# Altium footprint library [1] Main.PcbLib: 19 footprints (part 1 of 2)
Each footprint in its own frame and in the unit in brackets; x right, y up, seen from the top. Pads: shape width x height; smd on the part's side, far side on the other; paste and mask are expansions set on the pad; w line width, h text height; cw(c..) or ccw(c..) is an arc to the next point about the centre after c.
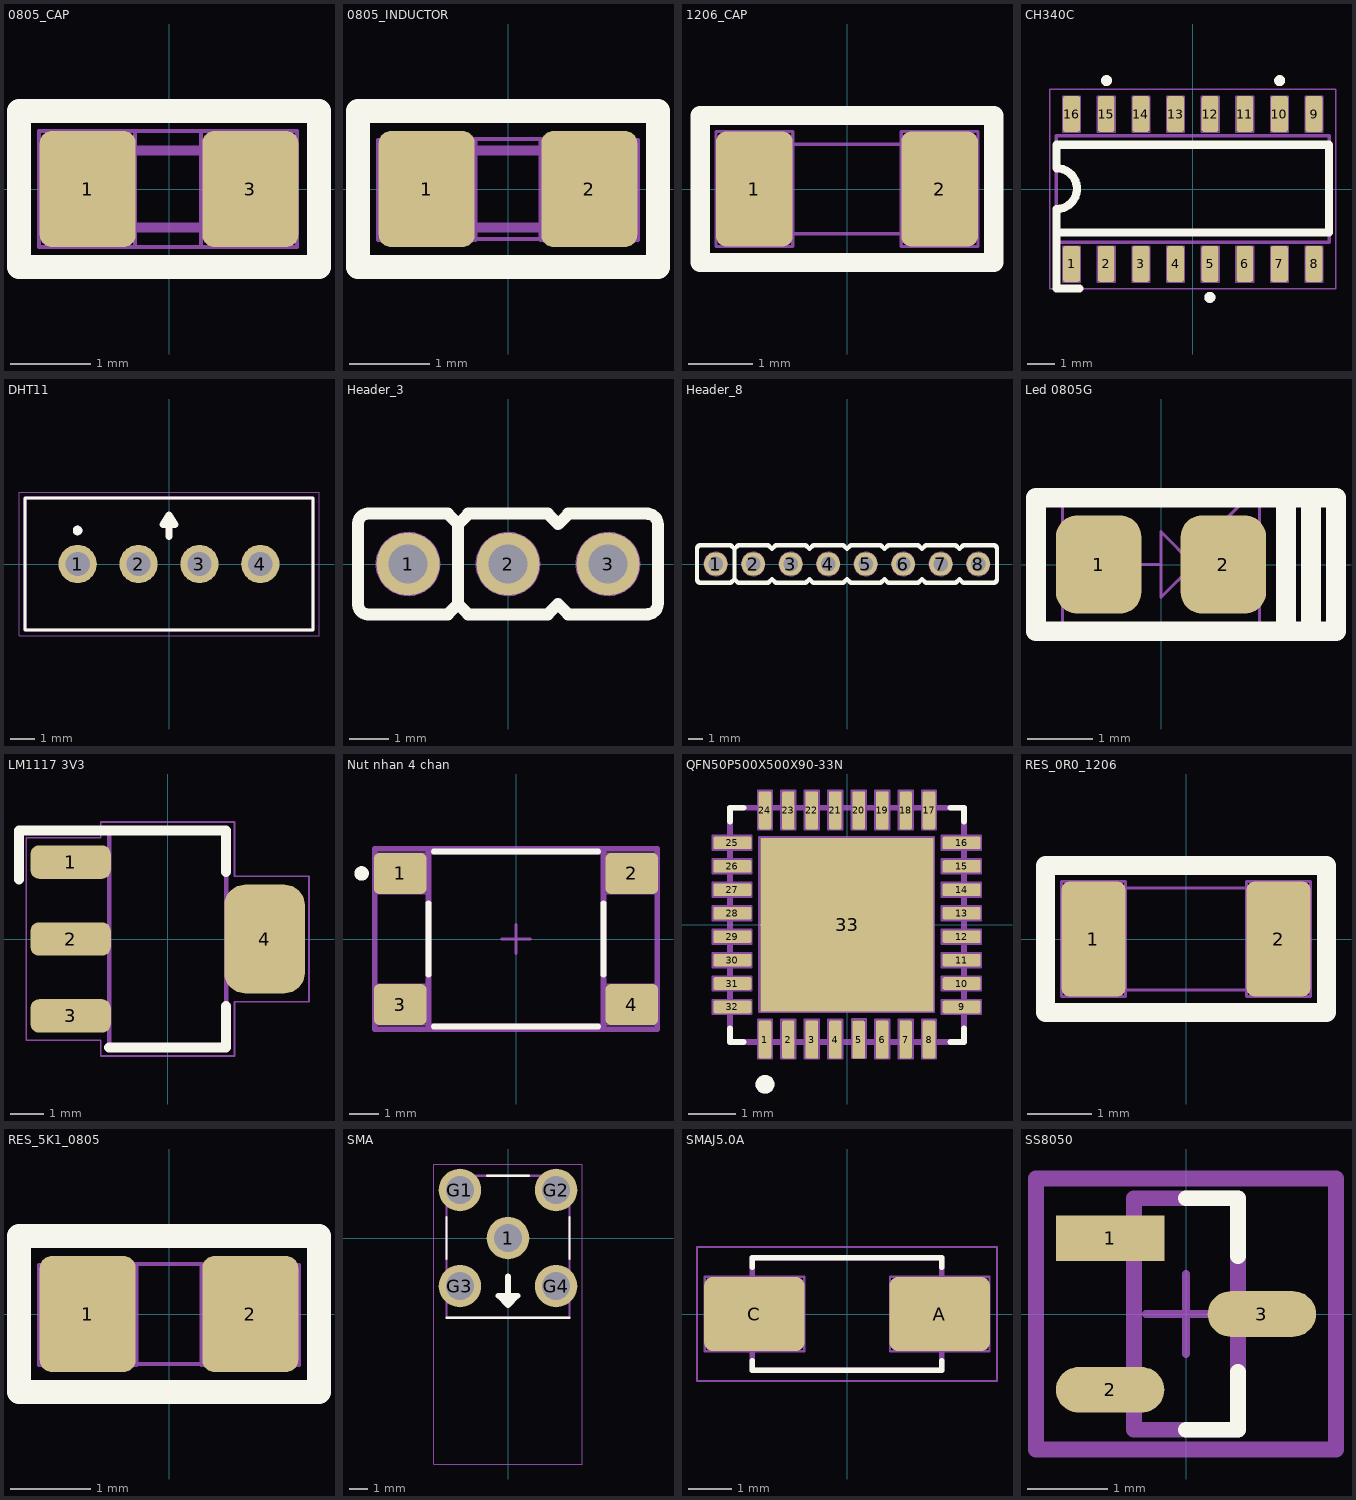
[diagram p0: the footprints below, top view; thin cyan lines are the x and y axes]

## 0805_CAP [mm]
pads (2):
  rrect25% 1.2x1.45 smd: 1(-1.016,0) 3(1.016,0)
Top Overlay:
  lines w0.3: -1.875,-0.975 -1.875,0.975 1.875,0.975 1.875,-0.975 -1.875,-0.975
Mechanical 2:
  lines w0.05: -1,-0.725 -1,0.725 ; -0.425,-0.725 -0.425,0.725 ; 0.4,-0.725 0.4,0.725 ; 1.025,-0.725 1.025,0.725 ; -1.625,-0.725 1.6,-0.725 1.6,0.725 -1.625,0.725 -1.625,-0.725
Mechanical 13:
  lines w0.127: -0.88,-0.48 0.88,-0.48 0.88,0.48 -0.88,0.48 -0.88,-0.48
3D body "CL21B224KAFNNNE.STEP": height 1.22, standoff -0.03, extent -1,-0.675 1,0.675

## 0805_INDUCTOR [mm]
pads (2):
  rrect25% 1.2x1.45 smd: 1(-1.016,0) 2(1.016,0)
Top Overlay:
  lines w0.3: -1.875,-0.975 1.875,-0.975 1.875,0.975 -1.875,0.975 -1.875,-0.975
Mechanical 2:
  lines w0.05: -1.6,0.61 -1.626,0.61 ; 0.85,-0.625 0.9,-0.625 ; -1.626,0.61 -0.406,0.61 -0.406,-0.635 -1.626,-0.635 -1.626,0.61 ; -1,-0.625 1,-0.625 1,0.625 -1,0.625 -1,-0.625 ; 0.406,-0.635 1.626,-0.635 1.626,0.61 0.406,0.61 0.406,-0.635
Mechanical 13:
  lines w0.127: -0.88,-0.48 -0.88,0.48 0.88,0.48 0.88,-0.48 -0.88,-0.48
3D body "step_temp.STEP": height 1, standoff 0, extent -1,-0.625 1,0.625

## 1206_CAP [mm]
pads (2):
  rrect25% 1.2x1.8 smd mask+0.1: 1(-1.45,0) 2(1.45,0)
Top Overlay:
  lines w0.3: -2.3,-1.15 -2.3,1.15 2.3,1.15 2.3,-1.15 -2.3,-1.15
Mechanical 2:
  lines w0.05: -2.05,-0.9 -0.85,-0.9 -0.85,0.9 -2.05,0.9 -2.05,-0.9 ; -1.65,-0.7 -1.65,0.7 1.65,0.7 1.65,-0.7 -1.65,-0.7 ; 0.85,-0.9 2.05,-0.9 2.05,0.9 0.85,0.9 0.85,-0.9
3D body "C1206X104J3REC7210.STEP": height 1.57, standoff -0.03, extent -1.65,-0.7 1.65,0.7

## CH340C [mm]
pads (16):
  rrect25% 0.62x1.31 smd: 1(-4.445,-2.75) 2(-3.175,-2.75) 3(-1.905,-2.75) 4(-0.635,-2.75) 5(0.635,-2.75) 6(1.905,-2.75) 7(3.175,-2.75) 8(4.445,-2.75) 9(4.445,2.75) 10(3.175,2.75) 11(1.905,2.75) 12(0.635,2.75) 13(-0.635,2.75) 14(-1.905,2.75) 15(-3.175,2.75) 16(-4.445,2.75)
Top Overlay:
  circle w0.2: c-3.165,3.975 r0.1
  circle w0.2: c3.185,3.975 r0.1
  circle w0.2: c0.625,-3.975 r0.1
  lines w0.3: -5,-0.794 -5,-1.6 ; -5,-0.738 ccw(c-5,0.013) -5,0.763 ; -5,0.819 -5,1.625 4.996,1.625 4.996,-1.6 -5,-1.6 ; -4.15,-3.65 -5,-3.65 -5,-1.6
Mechanical 2:
  lines w0.05: -3.475,-2.1 -3.5,-2.1 ; -3.5,-2.1 -2.85,-2.1 -2.85,-3.425 -3.5,-3.425 -3.5,-2.1 ; -4.77,-3.425 -4.12,-3.425 -4.12,-2.1 -4.77,-2.1 -4.77,-3.425 ; -4.77,2.075 -4.12,2.075 -4.12,3.4 -4.77,3.4 -4.77,2.075 ; -3.5,2.075 -2.85,2.075 -2.85,3.4 -3.5,3.4 -3.5,2.075 ; -2.23,-3.425 -1.58,-3.425 -1.58,-2.1 -2.23,-2.1 -2.23,-3.425 ; -2.23,2.075 -1.58,2.075 -1.58,3.4 -2.23,3.4 -2.23,2.075 ; -0.96,-3.425 -0.31,-3.425 -0.31,-2.1 -0.96,-2.1 -0.96,-3.425 ; -0.96,2.075 -0.31,2.075 -0.31,3.4 -0.96,3.4 -0.96,2.075 ; 0.31,-3.425 0.96,-3.425 0.96,-2.1 0.31,-2.1 0.31,-3.425 ; 0.31,2.075 0.96,2.075 0.96,3.4 0.31,3.4 0.31,2.075 ; 1.58,-3.425 2.23,-3.425 2.23,-2.1 1.58,-2.1 1.58,-3.425 ; 1.58,2.075 2.23,2.075 2.23,3.4 1.58,3.4 1.58,2.075 ; 2.85,-3.425 3.5,-3.425 3.5,-2.1 2.85,-2.1 2.85,-3.425 ; 2.85,2.075 3.5,2.075 3.5,3.4 2.85,3.4 2.85,2.075 ; 4.12,-3.425 4.77,-3.425 4.77,-2.1 4.12,-2.1 4.12,-3.425 ; 4.12,2.075 4.77,2.075 4.77,3.4 4.12,3.4 4.12,2.075
  lines w0.127: -5,-1.95 -5,1.95 5,1.95 5,-1.95 -5,-1.95
Mechanical 13:
  circle w0.2: c0.625,-3.975 r0.1
Mechanical 15:
  lines w0.05: -5.25,-3.655 5.25,-3.655 5.25,3.655 -5.25,3.655 -5.25,-3.655
3D body "step_temp.STEP": height 1.8, standoff 0, extent -5,-3 5,3

## DHT11 [mm]
pads (4):
  round 1.6 hole 1.016: 1(-3.81,0) 2(-1.27,0) 3(1.27,0) 4(3.81,0)
Top Overlay:
  circle w0.2: c-3.81,1.397 r0.1
  lines w0.127: -6,-2.75 -6,2.75 6,2.75 6,-2.75 -6,-2.75
  lines w0.3: 0,1.143 0,2.032 ; 0,2.032 0.254,1.651 -0.254,1.651 0,2.032
Mechanical 13:
  circle w0.2: c-3.81,1.397 r0.1
  lines w0.127: -6,-2.75 6,-2.75 6,2.75 -6,2.75 -6,-2.75
Mechanical 15:
  lines w0.05: -6.25,-3 6.25,-3 6.25,3 -6.25,3 -6.25,-3
3D body "ADA386--3DModel-STEP-56544.STEP": height 16, standoff -7.5, extent -6,-2.75 6,2.75

## Header_3 [mm] "Connector DIP, 3Pin_2.54mm"
height 5
pads (3):
  round 1.6 hole 1 mask+0.1: 1(-2.54,0) 2(0,0) 3(2.54,0)
Top Overlay:
  lines w0.3: -1.524,-1.28 -1.524,-1.27 ; -1.524,1.27 -1.27,1.016 ; -1.524,1.28 -3.57,1.28 ccw(c-3.55,1.02) -3.81,1 -3.81,-1 ccw(c-3.55,-1.02) -3.57,-1.28 -1.534,-1.28 -1.524,-1.27 ; -1.016,1.27 -1.27,1.016 ; -1.016,1.28 1.016,1.28 ; 1.016,-1.28 -1.016,-1.28 -1.27,-1.026 -1.27,-1.016 ; 1.016,-1.27 1.27,-1.016 1.27,-1.026 1.524,-1.28 3.556,-1.28 3.556,-1.27 ; 1.016,1.27 1.27,1.016 1.524,1.27 ; 1.524,1.28 3.556,1.28 3.556,1.27 ; 3.53,-1.28 ccw(c3.53,-1) 3.81,-1 3.81,1 ccw(c3.53,1) 3.53,1.28 ; -1.524,-1.27 -1.27,-1.016 ; -1.27,-1.016 -1.27,1.016
Mechanical 2:
  circle w0.05: c0,0 r0.8
  circle w0.05: c2.54,0 r0.8
  circle w0.05: c-2.54,0 r0.8
  lines w0.05: -1.524,-1.28 -1.524,-1.27 ; -1.524,1.27 -1.27,1.016 ; -1.524,1.28 -3.57,1.28 ccw(c-3.55,1.02) -3.81,1 -3.81,-1 ccw(c-3.55,-1.02) -3.57,-1.28 -1.534,-1.28 -1.524,-1.27 ; -1.016,1.27 -1.27,1.016 ; -1.016,1.28 1.016,1.28 ; 1.016,-1.28 -1.016,-1.28 -1.27,-1.026 ; 1.016,-1.27 1.27,-1.016 1.27,-1.026 1.524,-1.28 3.556,-1.28 3.556,-1.27 ; 1.016,1.27 1.27,1.016 1.524,1.27 ; 1.524,1.28 3.556,1.28 3.556,1.27 ; 3.53,-1.28 ccw(c3.53,-1) 3.81,-1 3.81,1 ccw(c3.53,1) 3.53,1.28 ; -1.524,-1.27 -1.27,-1.016 -1.27,-1.026 ; -1.27,-1.026 -1.27,1.016
  text "3" at 2.286,-0.254 h1.2
  text "1" at -2.794,-0.254 h1.2
3D body "Header 1x3.STEP": height 10.1, standoff -1.5, extent -3.81,-1.27 3.81,1.27

## Header_8 [mm] "Connector DIP Male, 8Pin_2.54mm"
height 5
pads (8):
  round 1.6 hole 1 mask+0.1: 1(-8.89,0) 2(-6.35,0) 3(-3.81,0) 4(-1.27,0) 5(1.27,0) 6(3.81,0) 7(6.35,0) 8(8.89,0)
Top Overlay:
  lines w0.3: -7.874,-1.28 -7.874,-1.27 ; -7.874,1.27 -7.62,1.016 ; -7.874,1.28 -9.92,1.28 ccw(c-9.9,1.02) -10.16,1 -10.16,-1 ccw(c-9.9,-1.02) -9.92,-1.28 -7.884,-1.28 -7.874,-1.27 ; -7.366,1.27 -7.62,1.016 ; -7.366,1.28 -5.334,1.28 -5.334,1.27 -5.08,1.016 -4.826,1.27 ; -4.84,-1.28 -2.804,-1.28 -2.794,-1.27 ; -4.84,1.28 -2.794,1.28 ; -4.826,-1.27 -5.08,-1.016 -5.334,-1.27 -5.334,-1.28 -7.366,-1.28 -7.62,-1.026 ; -2.794,-1.28 -2.794,-1.27 ; -2.794,1.27 -2.54,1.016 -2.286,1.27 ; -2.286,1.28 -0.254,1.28 -0.254,1.27 0,1.016 0.254,1.27 ; 0.24,-1.28 2.276,-1.28 2.286,-1.27 ; 0.24,1.28 2.286,1.28 ; 0.254,-1.27 0,-1.016 -0.254,-1.27 -0.254,-1.28 -2.286,-1.28 -2.54,-1.026 -2.54,-1.016 -2.794,-1.27 ; 2.286,-1.28 2.286,-1.27 ; 2.286,1.27 2.54,1.016 2.794,1.27 ; 2.794,1.28 4.826,1.28 4.826,1.27 5.08,1.016 5.334,1.27 ; 5.32,-1.28 7.356,-1.28 7.366,-1.27 ; 5.32,1.28 7.366,1.28 ; 5.334,-1.27 5.08,-1.016 4.826,-1.27 4.826,-1.28 2.794,-1.28 2.54,-1.026 2.54,-1.016 2.286,-1.27 ; 7.366,-1.28 7.366,-1.27 ; 7.366,1.27 7.62,1.016 7.874,1.27 ; 7.874,1.28 9.906,1.28 ; 9.906,-1.28 7.874,-1.28 7.62,-1.026 7.62,-1.016 7.366,-1.27 ; 9.92,-1.28 ccw(c9.9,-1.02) 10.16,-1 10.16,1 ccw(c9.9,1.02) 9.92,1.28 ; -7.874,-1.27 -7.62,-1.016 -7.62,-1.026 ; -7.62,-1.026 -7.62,1.016
Mechanical 2:
  circle w0.05: c-3.81,0 r0.8
  circle w0.05: c-6.35,0 r0.8
  circle w0.05: c3.81,0 r0.8
  circle w0.05: c1.27,0 r0.8
  circle w0.05: c8.89,0 r0.8
  circle w0.05: c-1.27,0 r0.8
  circle w0.05: c-8.89,0 r0.8
  circle w0.05: c-8.89,0 r0.8
  circle w0.05: c6.35,0 r0.8
  lines w0.05: -7.874,-1.28 -7.874,-1.27 ; -7.874,1.27 -7.62,1.016 ; -7.874,1.28 -9.92,1.28 ccw(c-9.9,1.02) -10.16,1 -10.16,-1 ccw(c-9.9,-1.02) -9.92,-1.28 -7.884,-1.28 -7.874,-1.27 ; -7.366,1.27 -7.62,1.016 ; -7.366,1.28 -5.334,1.28 -5.334,1.27 -5.08,1.016 -4.826,1.27 ; -4.84,-1.28 -2.804,-1.28 -2.794,-1.27 ; -4.84,1.28 -2.794,1.28 ; -4.826,-1.27 -5.08,-1.016 -5.334,-1.27 -5.334,-1.28 -7.366,-1.28 -7.62,-1.026 -7.62,-1.016 ; -2.794,-1.28 -2.794,-1.27 ; -2.794,1.27 -2.54,1.016 -2.286,1.27 ; -2.286,1.28 -0.254,1.28 -0.254,1.27 0,1.016 0.254,1.27 ; 0.24,-1.28 2.276,-1.28 2.286,-1.27 ; 0.24,1.28 2.286,1.28 ; 0.254,-1.27 0,-1.016 -0.254,-1.27 -0.254,-1.28 -2.286,-1.28 -2.54,-1.026 -2.54,-1.016 -2.794,-1.27 ; 2.286,-1.28 2.286,-1.27 ; 2.286,1.27 2.54,1.016 2.794,1.27 ; 2.794,1.28 4.826,1.28 4.826,1.27 5.08,1.016 5.334,1.27 ; 5.32,-1.28 7.356,-1.28 7.366,-1.27 ; 5.32,1.28 7.366,1.28 ; 5.334,-1.27 5.08,-1.016 4.826,-1.27 4.826,-1.28 2.794,-1.28 2.54,-1.026 2.54,-1.016 2.286,-1.27 ; 7.366,-1.28 7.366,-1.27 ; 7.366,1.27 7.62,1.016 7.874,1.27 ; 7.874,1.28 9.906,1.28 ; 9.906,-1.28 7.874,-1.28 7.62,-1.026 7.62,-1.016 7.366,-1.27 ; 9.92,-1.28 ccw(c9.9,-1.02) 10.16,-1 10.16,1 ccw(c9.9,1.02) 9.92,1.28 ; -7.874,-1.27 -7.62,-1.016 ; -7.62,-1.016 -7.62,1.016
  text "1" at -9.1,-0.4 h1.2
  text "8" at 8.6,-0.4 h1.2
3D body "Header 1x8.STEP": height 10.1, standoff -1.5, extent -10.16,-1.27 10.16,1.27

## Led 0805G [mm] "Chip LED; Green; Body 2.0 x 1.3 mm (LxW typ)"
height 1.1
pads (2):
  rrect50% 1.3x1.5 smd: 1(-0.95,0) 2(0.95,0)
Top Overlay:
  lines w0.3: 1.905,-1.016 1.905,1.016 ; 2.286,-1.016 2.286,1.016 ; -1.905,-1.016 -1.905,1.016 2.667,1.016 2.667,-1.016 -1.905,-1.016
Mechanical 2:
  lines w0.05: -1.5,-1 -1.5,1.032 ; -0.5,0 0,0 ; 0.5,-0.5 0.5,0.5 ; 0.6,0.5 0.8,0.7 0.8,0.5 1.2,0.9 ; 0.75,0.2 0.95,0.4 0.95,0.2 1.35,0.6 ; 1,0 0.5,0 ; 1.5,-1 1.5,1.032 ; 0.5,0 0,-0.5 0,0.5 0.5,0 ; -1.905,-1 -1.905,1.032 1.905,1.032 1.905,-1 -1.905,-1
3D body "User Library-User Library-led_0805 GRE.step": height 1.1, standoff 0, extent -1.035,-0.625 0.985,0.625

## LM1117 3V3 [mm]
pads (4):
  rrect50% 2.4x1 smd: 1(-2.9,2.3) 2(-2.9,0) 3(-2.9,-2.3)
  rrect50% 2.4x3.25 smd: 4(2.9,0)
Top Overlay:
  lines w0.3: -4.445,1.778 -4.445,3.25 1.75,3.25 1.75,2.01 ; -1.75,-3.25 1.75,-3.25 1.75,-2.01
Mechanical 13:
  lines w0.127: -1.75,-3.25 1.75,-3.25 1.75,3.25 -1.75,3.25 -1.75,-3.25
Mechanical 15:
  lines w0.05: -4.225,-3.025 -2,-3.025 -2,-3.5 2,-3.5 2,-1.875 4.225,-1.875 4.225,1.875 2,1.875 2,3.5 -2,3.5 -2,3.025 -4.225,3.025 -4.225,-3.025
3D body "step_temp.STEP": height 1.8, standoff 0, extent -3.499,-3.25 3.499,3.25

## Nut nhan 4 chan [mm]
pads (4):
  rrect25% 1.8x1.4 smd paste+0 mask+0: 1(-3.975,2.25) 2(3.975,2.25) 3(-3.975,-2.25) 4(3.975,-2.25)
Top Overlay:
  circle w0.25: c-5.3,2.25 r0.125
  lines w0.2: -3,-1.225 -3,1.225 ; -2.825,-3 2.825,-3 ; -2.825,3 2.825,3 ; 3,-1.225 3,1.225
Mechanical 2:
  lines w0.05: -4.875,-2.95 -3.075,-2.95 -3.075,-1.55 -4.875,-1.55 -4.875,-2.95 ; -4.875,1.55 -3.075,1.55 -3.075,2.95 -4.875,2.95 -4.875,1.55 ; -3,-3 -3,3 3,3 3,-3 -3,-3 ; 3.075,-2.95 4.875,-2.95 4.875,-1.55 3.075,-1.55 3.075,-2.95 ; 3.075,1.55 4.875,1.55 4.875,2.95 3.075,2.95 3.075,1.55
  text ".Designator" at 0,0.187 h1
Top 3D Body:
  lines w0.2: -3,-3 3,-3 3,3 -3,3 -3,-3
Top Courtyard:
  lines w0.2: -4.85,-3.1 4.85,-3.1 4.85,3.1 -4.85,3.1 -4.85,-3.1
Top Assembly:
  lines w0.2: -4.85,-3.1 4.85,-3.1 4.85,3.1 -4.85,3.1 -4.85,-3.1
Top Component Center:
  lines w0.1: -0.5,0 0.5,0 ; 0,-0.5 0,0.5
3D body "User Library-PTS645SL43SMTR92-LFS.STEP": height 4.3, standoff 0, extent -4.5,-3 4.5,3

## QFN50P500X500X90-33N [mm]
height 0.9
pads (33):
  rrect25% 0.27x0.81 smd mask+0: 1(-1.75,-2.445) 2(-1.25,-2.445) 3(-0.75,-2.445) 4(-0.25,-2.445) 5(0.25,-2.445) 6(0.75,-2.445) 7(1.25,-2.445) 8(1.75,-2.445) 17(1.75,2.445) 18(1.25,2.445) 19(0.75,2.445) 20(0.25,2.445) 21(-0.25,2.445) 22(-0.75,2.445) 23(-1.25,2.445) 24(-1.75,2.445)
  rrect25% 0.81x0.27 smd mask+0: 9(2.445,-1.75) 10(2.445,-1.25) 11(2.445,-0.75) 12(2.445,-0.25) 13(2.445,0.25) 14(2.445,0.75) 15(2.445,1.25) 16(2.445,1.75) 25(-2.445,1.75) 26(-2.445,1.25) 27(-2.445,0.75) 28(-2.445,0.25) 29(-2.445,-0.25) 30(-2.445,-0.75) 31(-2.445,-1.25) 32(-2.445,-1.75)
  rect 3.7x3.7 smd paste-0.68 mask+0.05: 33(0,0)
Top Overlay:
  circle w0.2: c-1.75,-3.4 r0.1
  lines w0.127: -2.5,-2.205 -2.5,-2.5 -2.205,-2.5 ; -2.5,2.205 -2.5,2.5 -2.205,2.5 ; 2.205,-2.5 2.5,-2.5 2.5,-2.205 ; 2.205,2.5 2.5,2.5 2.5,2.205
Top Solder:
  drawing of 32 lines, arcs and shapes, not listed
Mechanical 2:
  lines w0.05: 2.025,-1.9 2.85,-1.9 ; 2.025,-1.9 2.85,-1.9 ; 2.025,-1.9 2.025,-1.6 ; 2.025,-1.9 2.025,-1.6 ; 2.025,-1.6 2.85,-1.6 ; 2.025,-1.6 2.85,-1.6 ; 2.85,-1.9 2.85,-1.6 ; 2.85,-1.9 2.85,-1.6 ; -2.865,-1.9 -2.04,-1.9 -2.04,-1.6 -2.865,-1.6 -2.865,-1.9 ; -2.865,-1.4 -2.04,-1.4 -2.04,-1.1 -2.865,-1.1 -2.865,-1.4 ; -2.865,-0.9 -2.04,-0.9 -2.04,-0.6 -2.865,-0.6 -2.865,-0.9 ; -2.865,-0.4 -2.04,-0.4 -2.04,-0.1 -2.865,-0.1 -2.865,-0.4 ; -2.865,0.1 -2.04,0.1 -2.04,0.4 -2.865,0.4 -2.865,0.1 ; -2.865,0.6 -2.04,0.6 -2.04,0.9 -2.865,0.9 -2.865,0.6 ; -2.865,1.1 -2.04,1.1 -2.04,1.4 -2.865,1.4 -2.865,1.1 ; -2.865,1.6 -2.04,1.6 -2.04,1.9 -2.865,1.9 -2.865,1.6 ; -1.9,-2.85 -1.6,-2.85 -1.6,-2.025 -1.9,-2.025 -1.9,-2.85 ; -1.9,2.04 -1.6,2.04 -1.6,2.865 -1.9,2.865 -1.9,2.04 ; -1.875,-1.85 1.85,-1.85 1.85,1.875 -1.875,1.875 -1.875,-1.85 ; -1.4,-2.85 -1.1,-2.85 -1.1,-2.025 -1.4,-2.025 -1.4,-2.85 ; -1.4,2.04 -1.1,2.04 -1.1,2.865 -1.4,2.865 -1.4,2.04 ; -0.9,-2.85 -0.6,-2.85 -0.6,-2.025 -0.9,-2.025 -0.9,-2.85 ; -0.9,2.04 -0.6,2.04 -0.6,2.865 -0.9,2.865 -0.9,2.04 ; -0.4,-2.85 -0.1,-2.85 -0.1,-2.025 -0.4,-2.025 -0.4,-2.85 ; -0.4,2.04 -0.1,2.04 -0.1,2.865 -0.4,2.865 -0.4,2.04 ; 0.1,2.04 0.4,2.04 0.4,2.865 0.1,2.865 0.1,2.04 ; 0.106,-2.837 0.406,-2.837 0.406,-2.012 0.106,-2.012 0.106,-2.837 ; 0.6,-2.85 0.9,-2.85 0.9,-2.025 0.6,-2.025 0.6,-2.85 ; 0.6,2.04 0.9,2.04 0.9,2.865 0.6,2.865 0.6,2.04 ; 1.1,-2.85 1.4,-2.85 1.4,-2.025 1.1,-2.025 1.1,-2.85 ; 1.1,2.04 1.4,2.04 1.4,2.865 1.1,2.865 1.1,2.04 ; 1.6,-2.85 1.9,-2.85 1.9,-2.025 1.6,-2.025 1.6,-2.85 ; 1.6,2.04 1.9,2.04 1.9,2.865 1.6,2.865 1.6,2.04 ; 2.025,-1.4 2.85,-1.4 2.85,-1.1 2.025,-1.1 2.025,-1.4 ; 2.025,-0.9 2.85,-0.9 2.85,-0.6 2.025,-0.6 2.025,-0.9 ; 2.025,-0.4 2.85,-0.4 2.85,-0.1 2.025,-0.1 2.025,-0.4 ; 2.025,0.1 2.85,0.1 2.85,0.4 2.025,0.4 2.025,0.1 ; 2.025,0.6 2.85,0.6 2.85,0.9 2.025,0.9 2.025,0.6 ; 2.025,1.1 2.85,1.1 2.85,1.4 2.025,1.4 2.025,1.1 ; 2.025,1.6 2.85,1.6 2.85,1.9 2.025,1.9 2.025,1.6
Mechanical 13:
  circle w0.2: c-1.75,-3.4 r0.1
  lines w0.127: -2.5,-2.5 2.5,-2.5 2.5,2.5 -2.5,2.5 -2.5,-2.5
3D body "step_temp.STEP": height 0.9, standoff 0, extent -2.5,-2.5 2.5,2.5

## RES_0R0_1206 [mm]
pads (2):
  rrect25% 1x1.8 smd mask+0.1: 1(-1.45,0) 2(1.45,0)
Top Overlay:
  lines w0.3: -2.2,-1.15 -2.2,1.15 2.2,1.15 2.2,-1.15 -2.2,-1.15
Mechanical 2:
  lines w0.05: -1.95,-0.9 -1.95,0.9 -0.95,0.9 -0.95,-0.9 -1.95,-0.9 ; -1.6,-0.8 -1.6,0.8 1.6,0.8 1.6,-0.8 -1.6,-0.8 ; 0.95,-0.9 0.95,0.9 1.95,0.9 1.95,-0.9 0.95,-0.9
3D body "ERJS080R00V.STEP": height 0.6, standoff 0, extent -1.6,-0.8 1.6,0.8

## RES_5K1_0805 [mm]
pads (2):
  rrect25% 1.2x1.45 smd: 1(-1.016,0) 2(1.016,0)
Top Overlay:
  lines w0.3: -1.875,-0.975 1.875,-0.975 1.875,0.975 -1.875,0.975 -1.875,-0.975
Mechanical 2:
  lines w0.05: -1.6,0.61 -1.626,0.61 ; 0.85,-0.625 0.9,-0.625 ; -1.626,0.61 -0.406,0.61 -0.406,-0.635 -1.626,-0.635 -1.626,0.61 ; -1,-0.625 1,-0.625 1,0.625 -1,0.625 -1,-0.625 ; 0.406,-0.635 1.626,-0.635 1.626,0.61 0.406,0.61 0.406,-0.635
3D body "ERA6AHD200V.STEP": height 0.6, standoff 0, extent -1,-0.625 1,0.625

## SMA [mm]
pads (5):
  round 2.25 hole 1.5: 1(0,0) G1(-2.54,2.54) G2(2.54,2.54) G3(-2.54,-2.54) G4(2.54,-2.54)
Top Overlay:
  lines w0.127: -3.25,-4.207 3.25,-4.207 ; -3.25,-1.095 -3.25,1.095 ; -1.095,3.3 1.095,3.3 ; 3.25,-1.095 3.25,1.095
  lines w0.3: 0,-2.032 0,-3.556 ; 0,-3.556 0.508,-3.048 -0.508,-3.048 0,-3.556
Mechanical 13:
  lines w0.127: -3.25,-4.207 3.25,-4.207 ; -3.25,-4.191 -3.25,3.3 3.25,3.3 3.25,-4.191
Mechanical 15:
  lines w0.05: -3.915,-11.95 -3.915,3.915 3.915,3.915 3.915,-11.95 -3.915,-11.95
3D body "step_temp.STEP": height 9.65, standoff -4.05, extent -3.225,-11.77 3.225,3.23

## SMAJ5.0A [mm]
pads (2):
  rrect25% 2.3x1.7 smd: A(2.115,0) C(-2.115,0)
Top Overlay:
  lines w0.127: -2.165,-1.07 -2.165,-1.28 2.165,-1.28 2.165,-1.07 ; -2.165,1.07 -2.165,1.28 2.165,1.28 2.165,1.07
Mechanical 2:
  lines w0.05: -3.25,-0.85 -3.25,0.85 -0.975,0.85 -0.975,-0.85 -3.25,-0.85 ; 0.98,-0.85 0.98,0.85 3.255,0.85 3.255,-0.85 0.98,-0.85
Mechanical 13:
  lines w0.127: -2.165,-1.28 -2.165,1.28 2.165,1.28 2.165,-1.28 -2.165,-1.28
Mechanical 15:
  lines w0.05: -3.425,-1.53 -3.425,1.53 3.425,1.53 3.425,-1.53 -3.425,-1.53
3D body "step_temp.STEP": height 2.65, standoff 0, extent -2.538,-1.288 2.538,1.288

## SS8050 [mm]
pads (3):
  rect 1.357x0.572 smd paste+0 mask+0: 1(-0.951,0.95)
  rrect100% 1.357x0.572 smd paste+0 mask+0: 2(-0.951,-0.95) 3(0.951,0)
Top Overlay:
  lines w0.2: 0,-1.45 0.65,-1.45 0.65,-0.725 ; 0,1.45 0.65,1.45 0.65,0.725
Mechanical 2:
  text ".Designator" at 0,-0.001 h1
Top 3D Body:
  lines w0.2: -0.65,-1.45 0.65,-1.45 0.65,1.45 -0.65,1.45 -0.65,-1.45
Top Courtyard:
  lines w0.2: -1.879,-1.7 1.879,-1.7 1.879,1.7 -1.879,1.7 -1.879,-1.7
Top Assembly:
  lines w0.2: -1.879,-1.7 1.879,-1.7 1.879,1.7 -1.879,1.7 -1.879,-1.7
Top Component Center:
  lines w0.1: -0.5,0 0.5,0 ; 0,-0.5 0,0.5
3D body "Trans_Comchip_SS8050-G_eec.STEP": height 0.25, standoff 0, extent -1.879,-1.7 1.879,1.7